# EAGLE library part ITG-3200 (library sonder_b)
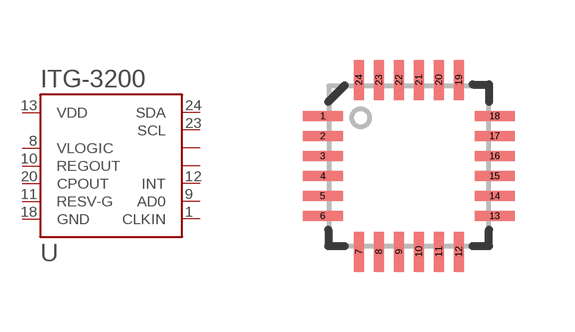
[diagram p1: symbol with the pads of QFN24; footprint QFN24]

Designator prefix -

## ITG-3200QFN_LONG  [QFN24]
1  CLKIN  in
2  NC$1  nc
3  NC$2  nc
4  NC$3  nc
5  NC$4  nc
6  RSV$1
7  RSV$2
8  VLOGIC  pwr
9  AD0  in
10  REGOUT  pwr
11  RESV-G  pas
12  INT  out
13  VDD  pwr
14  NC$5  nc
15  NC$6  nc
16  NC$7  nc
17  NC$8  nc
18  GND  pwr
19  RSV$3
20  CPOUT  pwr
21  RSV$4
22  RSV$5
23  SCL
24  SDA

## Footprint QFN24 (pad centres in mm)
QFN Package 24-pin, 4mm x 4mm x 0.9mm, No center pad
smd 1 x 0.25: 1 -2.15,1.25; 2 -2.15,0.75; 3 -2.15,0.25; 4 -2.15,-0.25; 5 -2.15,-0.75; 6 -2.15,-1.25; 13 2.15,-1.25; 14 2.15,-0.75; 15 2.15,-0.25; 16 2.15,0.25; 17 2.15,0.75; 18 2.15,1.25
smd 0.25 x 1: 7 -1.25,-2.15; 8 -0.75,-2.15; 9 -0.25,-2.15; 10 0.25,-2.15; 11 0.75,-2.15; 12 1.25,-2.15; 19 1.25,2.15; 20 0.75,2.15; 21 0.25,2.15; 22 -0.25,2.15; 23 -0.75,2.15; 24 -1.25,2.15